# EAGLE library part TLC549 (library #PaJa_31)
A/D prevodnik - 8bit - seriovy
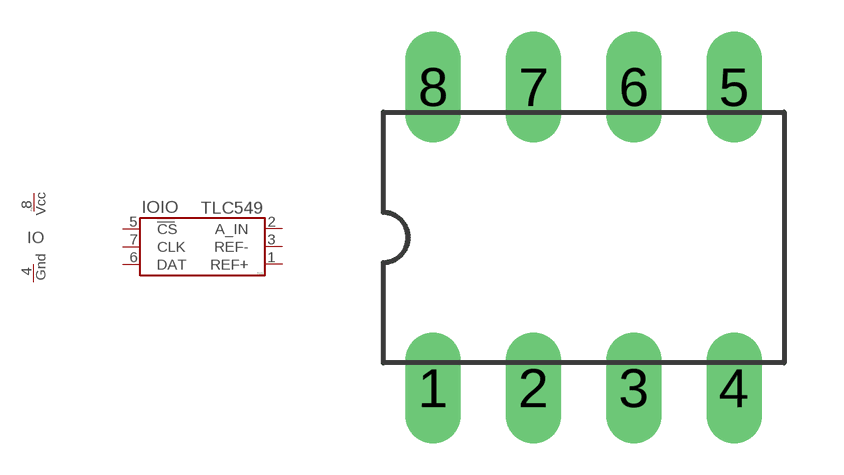
[diagram p34: symbol with the pads of DIL8; footprint DIL8]

Designator prefix IO; gates IO=TLC549 N=POWER

## TLC549  [DIL8]
1  IO:REF+  pas
2  IO:A_IN  pas
3  IO:REF-  pas
4  N:GND  pwr
5  IO:CS  pas
6  IO:DAT  pas
7  IO:CLK  pas
8  N:VCC  pwr

## Footprint DIL8 (pad centres in mm)
drill 0.813 pad 1.4 long: 1 -3.81,-3.81; 2 -1.27,-3.81; 3 1.27,-3.81; 4 3.81,-3.81; 5 3.81,3.81; 6 1.27,3.81; 7 -1.27,3.81; 8 -3.81,3.81